# Altium footprint library COLCIRCUITOS-DOMOS3.PCBLIB: 11 footprints
Each footprint in its own frame and in the unit in brackets; x right, y up, seen from the top. Pads: shape width x height; smd on the part's side, far side on the other; paste and mask are expansions set on the pad; w line width, h text height; cw(c..) or ccw(c..) is an arc to the next point about the centre after c.
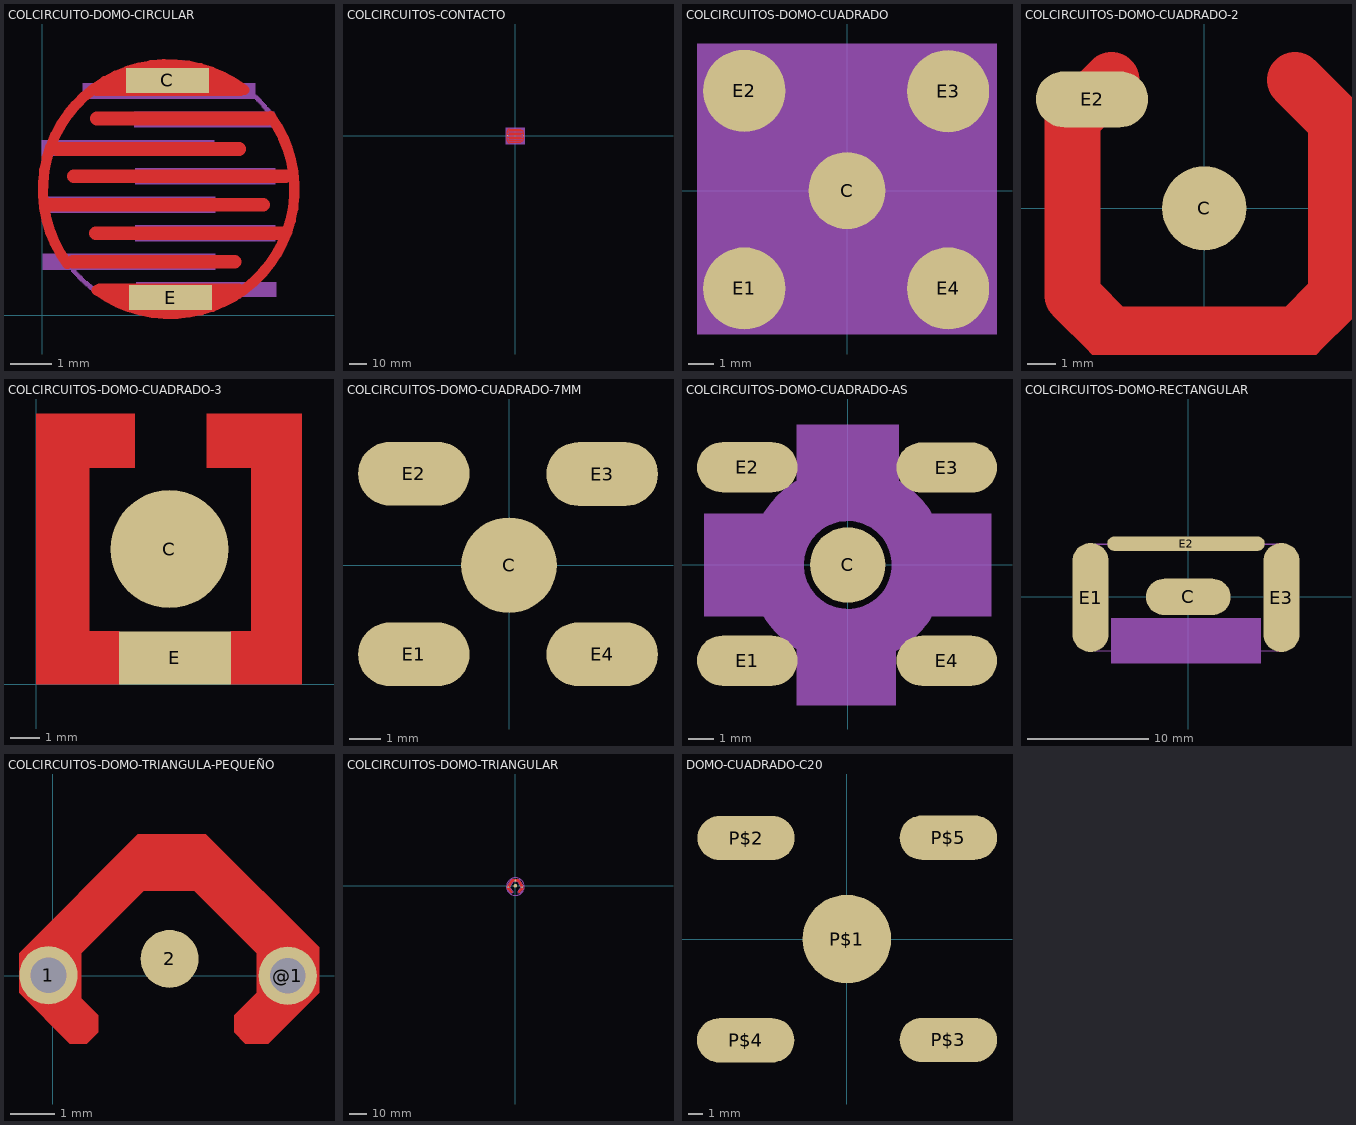
[diagram p0: the footprints below, top view; thin cyan lines are the x and y axes]

## COLCIRCUITO-DOMO-CIRCULAR [mil]
pads (2):
  rect 78.74x23.62 smd: C(119,223) E(122,17)
Top Layer:
  lines w9.84: 24,49 cw(c119.79,119.5) 192,214 ; 52,24 ccw(c121.5,119.5) 217,189 ; 64,17 167,16 ; 66,221 161,221 ; 85,11 151,11 152,12 ; 136,232 101,232 97,228 81,228 82,227 155,227 161,221 ; 171,221 161,221
  lines w12.99: 8,105 210,105 ; 14,158 187,158 ; 29,51 183,51 ; 30,132 231,132 ; 51,78 229,78 ; 52,187 214,187 ; 52,215 188,215 ; 55,24 186,24
Mech49:
  drawing of 494 lines, arcs and shapes, not listed
  text "C:/Documents and Settings/preprensa/Escritorio/borrar.bmp" at 0,-5 h1.7

## COLCIRCUITOS-CONTACTO [mil]
pads (2):
  rrect100% 12x24 smd: C(-180,0) E(179,0)
Top Layer:
  lines w15.75: -140,-125 130,-125 ccw(c130,-75) 180,-75 180,-60 ; -135,-60 180,-60 ; -135,0 180,0 ; -135,60 180,60 ; -135,120 130,120 cw(c130,70) 180,70 180,60 ; 120,-160 -130,-160 cw(c-125,-105) -180,-100 -180,-90 ; 125,150 -130,150 ccw(c-130,100) -180,100 -180,90 ; 135,-90 -180,-90 ; 135,-30 -180,-30 ; 135,30 -180,30 ; 135,90 -180,90 ; -180,-90 -180,-30 ; -180,-30 -180,30 ; -180,30 -180,90 ; 180,-60 180,0 ; 180,0 180,60
Top Solder:
  lines w66: -86,-137 -146,-52 -148,-30 -138,-9 -71,102 -46,110 57,110 79,91 ; -84,-143 -160,-67 cw(c-134.13,-41.13) -164,-20 ccw(c-1304.7,786.67) -78,118 cw(c-64.51,110.65) -65,126 cw(c9.95,-2230.63) 40,127 cw(c39.44,78.83) 77,109 ; 148,-23 145,-46 140,-61 132,-71 85,-135 87,-137 87,-141 159,-69 159,-64 ccw(c113.69,-41) 159,-18
Mechanical 19:
  region: -220,-190 -220,180 215,180 215,-190

## COLCIRCUITOS-DOMO-CUADRADO [mil]
pads (5):
  rrect100% 118.11x118.11 smd: C(0,0)
  rrect100% 125.98x125.98 smd: E1(-157.5,-150) E2(-157.5,153) E3(155,152.5) E4(155,-150)
Mechanical 19:
  region: -230,-220 -230,225 230,225 230,-220

## COLCIRCUITOS-DOMO-CUADRADO-2 [mm]
pads (2):
  rrect100% 3x3 smd: C(0,0)
  rrect100% 4x2 smd: E2(-4,3.886)
Top Layer:
  lines w2: -3.302,4.572 -4.699,3.175 -4.699,-3.111 -3.302,-4.508 3.302,-4.508 4.699,-3.111 4.699,3.111 3.238,4.572

## COLCIRCUITOS-DOMO-CUADRADO-3 [mil]
pads (2):
  rrect100% 157.48x157.48 smd: C(177.5,180)
  rect 150x70.87 smd: E(185,35)
Top Layer:
  region: -0.5,-0.5 -0.5,360.5 70.5,360.5 70.5,-0.5
  region: 70.5,-0.5 70.5,70.5 110.5,70.5 110.5,-0.5
  region: 286.5,-0.5 286.5,360.5 354.5,360.5 354.5,-0.5
  region: 259.5,-0.5 259.5,70.5 286.5,70.5 286.5,-0.5
  region: 227.5,288.5 227.5,360.5 287,360.5 287,288.5
  region: 70,288.5 70,360.5 131.5,360.5 131.5,288.5

## COLCIRCUITOS-DOMO-CUADRADO-7MM [mil]
pads (5):
  rrect100% 118.11x118.11 smd: C(0,0)
  rrect100% 137.8x78.74 smd: E1(-117.5,-110) E2(-117.5,113) E3(115,112.5) E4(115,-110)

## COLCIRCUITOS-DOMO-CUADRADO-AS [mm]
pads (5):
  rrect100% 3x3 smd: C(0,0)
  rrect100% 4x2 smd: E1(-4,-3.81) E2(-4,3.886) E3(3.937,3.873) E4(3.937,-3.81)
Mechanical 7:
  circle w2.184: c0,0 r2.84
  region: -5.334,-1.651 -5.334,1.651 -3.429,1.651 -3.429,-1.651
  region: 1.27,3.683 -2.032,3.683 -2.032,5.588 1.27,5.588
  region: 1.651,-5.207 -1.651,-5.207 -1.651,-3.302 1.651,-3.302
  region: 3.429,-1.651 3.429,1.651 5.334,1.651 5.334,-1.651
  region: 1.27,3.302 -2.032,3.302 -2.032,5.207 1.27,5.207
  region: 2.032,3.302 -1.27,3.302 -1.27,5.207 2.032,5.207
  region: 1.27,-5.207 -2.032,-5.207 -2.032,-3.302 1.27,-3.302
  region: 1.27,-5.588 -2.032,-5.588 -2.032,-3.683 1.27,-3.683
  region: 1.905,-5.588 -1.397,-5.588 -1.397,-3.683 1.905,-3.683
  region: 1.905,-5.08 -1.397,-5.08 -1.397,-3.175 1.905,-3.175
  region: 3.81,-2.032 3.81,1.27 5.715,1.27 5.715,-2.032
  region: 3.302,-2.032 3.302,1.27 5.207,1.27 5.207,-2.032
  region: 3.302,-1.27 3.302,2.032 5.207,2.032 5.207,-1.27
  region: 3.81,-1.27 3.81,2.032 5.715,2.032 5.715,-1.27
  region: -5.715,-2.032 -5.715,1.27 -3.81,1.27 -3.81,-2.032
  region: -4.826,-2.032 -4.826,1.27 -2.921,1.27 -2.921,-2.032
  region: -5.715,-1.27 -5.715,2.032 -3.81,2.032 -3.81,-1.27
  region: -4.953,-1.27 -4.953,2.032 -3.048,2.032 -3.048,-1.27
  region: 2.032,3.683 -1.27,3.683 -1.27,5.588 2.032,5.588

## COLCIRCUITOS-DOMO-RECTANGULAR [mm]
pads (4):
  rrect100% 7x3 smd: C(0,0)
  rrect100% 3x9 smd: E1(-8.064,-0.051) E3(7.683,-0.051)
  rrect100% 13x1.2 smd: E2(-0.191,4.394)
Mechanical 7:
  region: -6.35,-5.461 -6.35,-1.778 5.969,-1.778 5.969,-5.461
Mechanical 20:
  drawing of 424 lines, arcs and shapes, not listed

## COLCIRCUITOS-DOMO-TRIANGULA-PEQUEÑO [mil]
pads (3):
  round 51.5 hole 31.5: 1(-4,0.5) @1(207.41,0)
  rrect100% 51.18x51.18 smd: 2(103,15)
Top Layer:
  region: -30,20 -30,-15 15,-60 30,-60 40,-50 40,-35 25,-20 25,20 80,75 125,75 180,20 180,-15 160,-35 160,-50 170,-60 190,-60 235,-15 235,25 135,125 75,125
  lines w16: 2.44,0.87 3.44,0.87 ; 200.44,0.87 200.44,2.87

## COLCIRCUITOS-DOMO-TRIANGULAR [mil]
pads (4):
  rrect100% 78.74x78.74 smd: C(0,0)
  rrect100% 39.37x39.37 smd: E(0,116)
  round 43.31 hole 43.31 unplated: MH1(-160,-35) MH2(155,-35)
Top Layer:
  lines w40: -151,-84 -157,-77 -165,-66 -170,-51 -172,-43 -171,-30 -167,-18 -160,-4 -89,108 -83,116 -76,123 -68,127 -61,130 -47,132 36,132 49,131 60,128 70,121 80,113 96,90 166,-23 cw(c110.09,-36.71) 165,-54 cw(c93.4,-31.44) 146,-85 90,-140 83,-143 81,-142 80,-136 139,-53 143,-39 144,-29 144,-22 141,-20 137,-8 133,-1 75,93 67,100 60,106 50,111 42,113 -26,113 -51,111 -62,107 -73,99 -82,91 -145,-11 -148,-29 -148,-38 -144,-51 -84,-139 -86,-142 -91,-142 -138,-96 -137,-91
Top Solder:
  lines w66: -86,-137 -146,-52 -148,-30 -138,-9 -71,102 -46,110 57,110 79,91 148,-23 145,-46 140,-61 132,-71 85,-135 87,-137 87,-141 159,-69 159,-64 ccw(c113.69,-41) 159,-18 ccw(c-492.75,-348.84) 77,109 ccw(c39.44,78.82) 40,127 ccw(c9.95,-2230.63) -65,126 ccw(c-64.51,110.65) -78,118 cw(c-1304.7,786.67) -164,-20 ccw(c-134.13,-41.13) -160,-67 -84,-143
Mechanical 7:
  circle w5: c0,-20 r200
  lines w5: -190,-60 -180,-80 -100,-165 -80,-165 -70,-160 -65,-155 -60,-140 -65,-125 -125,-40 -125,-25 -65,80 -45,90 45,90 60,85 125,-30 125,-40 65,-125 60,-145 70,-165 95,-165 190,-65 190,-20 75,150 -80,150 -85,145 -190,-15 -190,-60

## DOMO-CUADRADO-C20 [mm]
pads (5):
  rrect100% 6x6 smd: P$1(0.001,-0.001)
  rrect100% 6.6x3 smd: P$2(-6.843,6.845) P$3(6.873,-6.845) P$4(-6.869,-6.871) P$5(6.873,6.871)